# Altium footprint library QFN50P400X400X100-21N QFN UCC.PcbLib: 1 footprints
Each footprint in its own frame and in the unit in brackets; x right, y up, seen from the top. Pads: shape width x height; smd on the part's side, far side on the other; paste and mask are expansions set on the pad; w line width, h text height; cw(c..) or ccw(c..) is an arc to the next point about the centre after c.
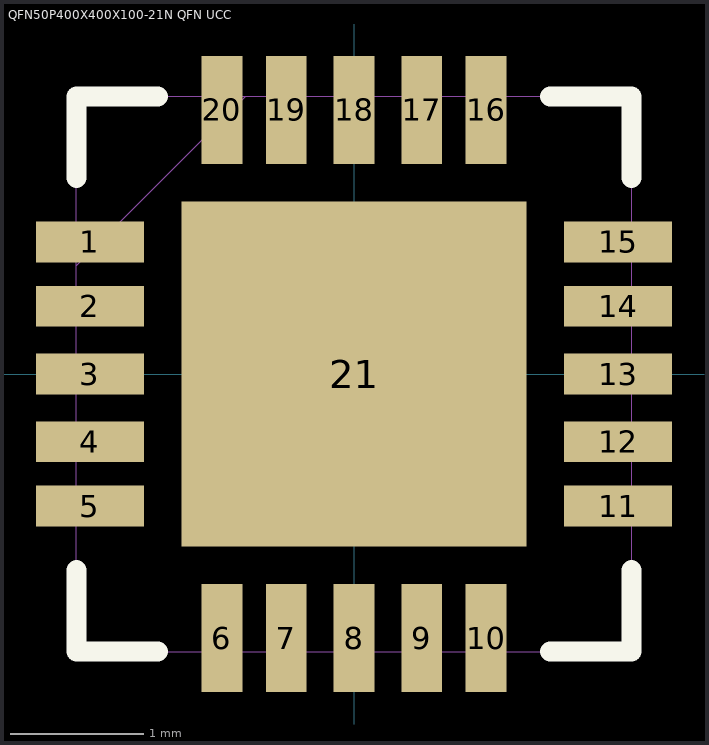
[diagram p0: the footprint, top view; thin cyan lines are the x and y axes]

## QFN50P400X400X100-21N QFN UCC [mil]
pads (21):
  rect 32x12 smd: 1(-78,39) 2(-78,20) 3(-78,0) 4(-78,-20) 5(-78,-39) 11(78,-39) 12(78,-20) 13(78,0) 14(78,20) 15(78,39)
  rect 12x32 smd: 6(-39,-78) 7(-20,-78) 8(0,-78) 9(20,-78) 10(39,-78) 16(39,78) 17(20,78) 18(0,78) 19(-20,78) 20(-39,78)
  rect 102x102 smd: 21(0,0)
Top Overlay:
  lines w6: -82,-58 -82,-82 -58,-82 ; -82,58 -82,82 -58,82 ; 58,-82 82,-82 82,-58 ; 58,82 82,82 82,58
Assembly Top:
  lines w0: -82,-45 -82,-33 ; -82,-26 -82,-14 ; -82,-6 -82,6 ; -82,14 -82,26 ; -82,32 -32,82 ; -82,33 -82,45 ; -45,-82 -33,-82 ; -45,82 -33,82 ; -26,-82 -14,-82 ; -26,82 -14,82 ; -6,-82 6,-82 ; -6,82 6,82 ; 14,-82 26,-82 ; 14,82 26,82 ; 33,-82 45,-82 ; 33,82 45,82 ; 82,-45 82,-33 ; 82,-26 82,-14 ; 82,-6 82,6 ; 82,14 82,26 ; 82,33 82,45 ; -82,-82 82,-82 82,82 -82,82 -82,-82
3D body "RGP20_2P7X2P7.step": height 55.12, standoff 0, extent -83.7,-83.7 83.7,83.7